# Altium footprint library TT_Pcb.PcbLib: 43 footprints (part 1 of 3)
Each footprint in its own frame and in the unit in brackets; x right, y up, seen from the top. Pads: shape width x height; smd on the part's side, far side on the other; paste and mask are expansions set on the pad; w line width, h text height; cw(c..) or ccw(c..) is an arc to the next point about the centre after c.
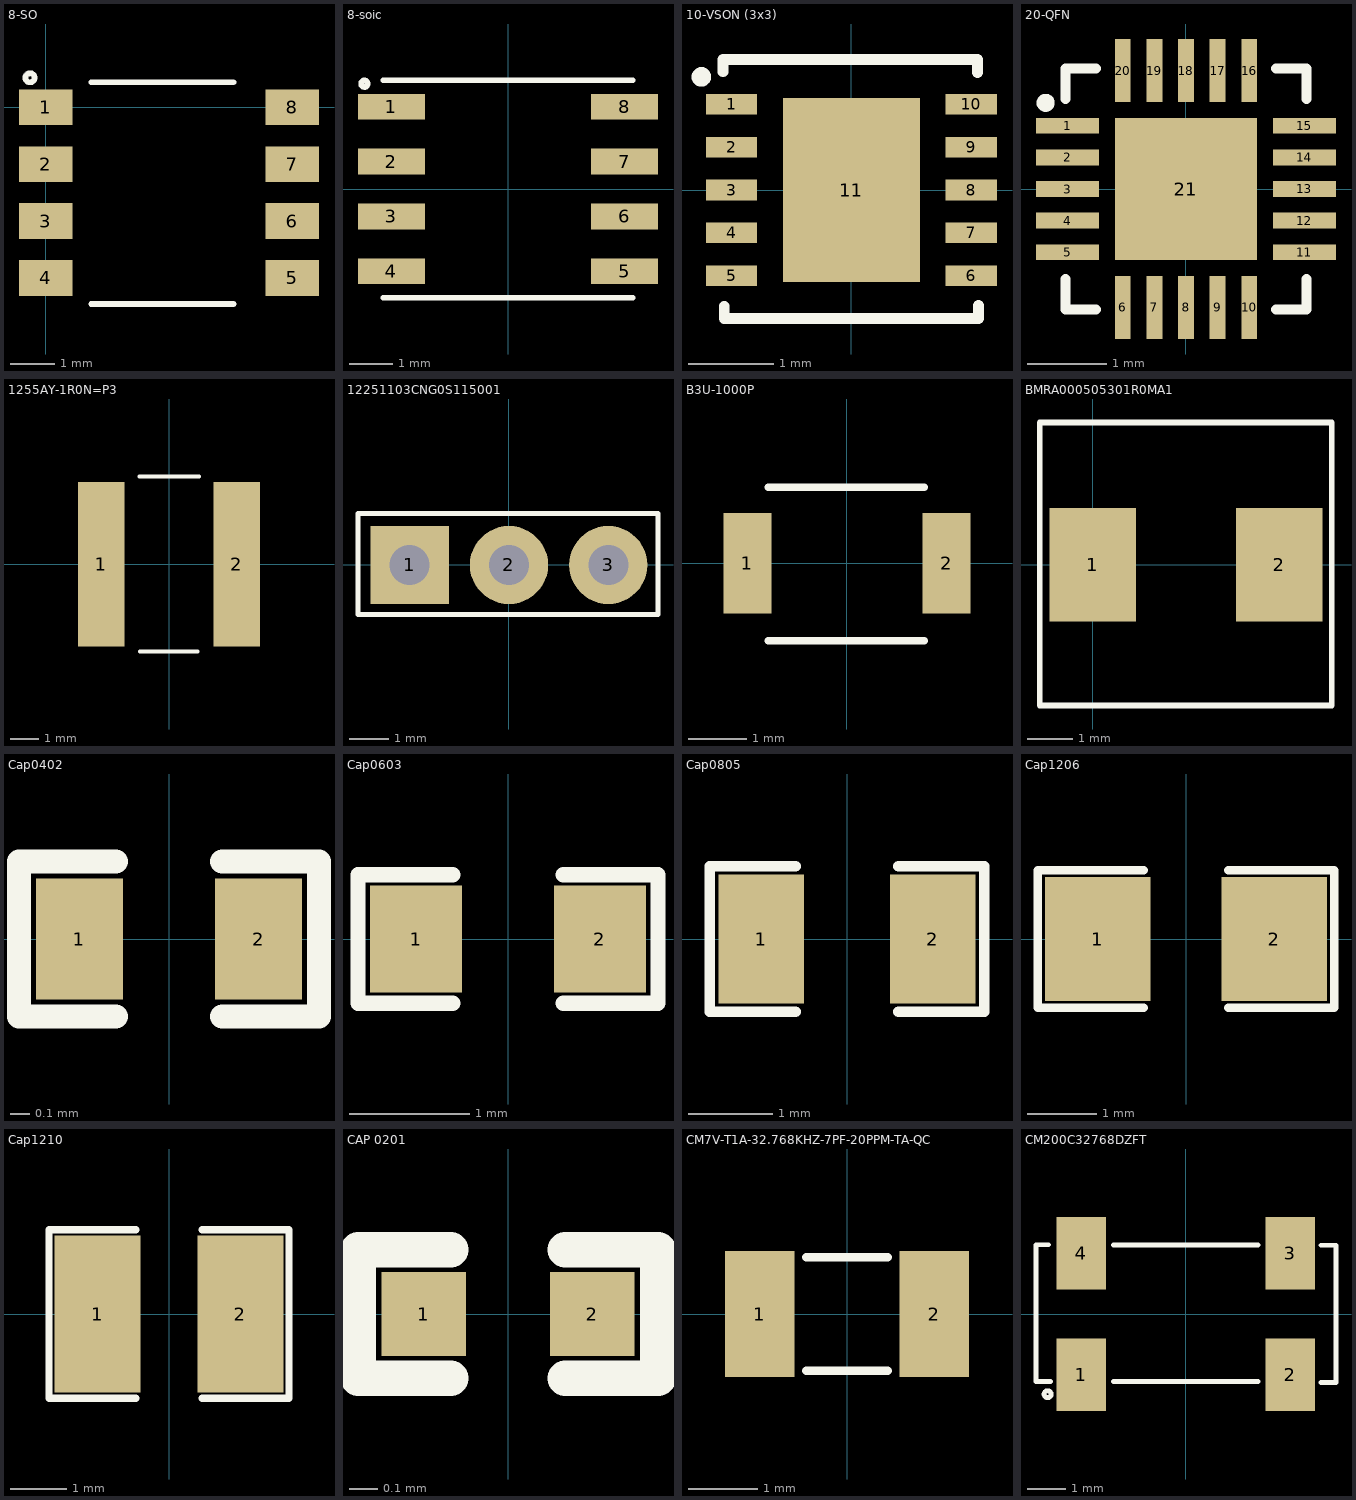
[diagram p0: the footprints below, top view; thin cyan lines are the x and y axes]

## 8-SO [mm] "IC RTC CLK/CALENDAR I2C 8-SOIC"
pads (8):
  rect 1.2x0.8 smd: 1(0,0) 2(0,-1.27) 3(0,-2.54) 4(0,-3.81) 5(5.5,-3.81) 6(5.5,-2.54) 7(5.5,-1.27) 8(5.5,0)
Top Overlay:
  circle w0.127: c-0.356,0.66 r0.102
  lines w0.127: 1.016,-4.394 4.191,-4.394 ; 1.016,0.559 4.191,0.559
3D body "CircuitWorks-SO-8.STEP": height 1.45, standoff 0, extent -0.317,-4.356 5.461,0.546

## 8-soic [mm]
pads (8):
  rect 1.55x0.6 smd: 1(-2.7,1.905) 2(-2.7,0.635) 3(-2.7,-0.635) 4(-2.7,-1.905) 5(2.7,-1.905) 6(2.7,-0.635) 7(2.7,0.635) 8(2.7,1.905)
Top Overlay:
  circle w0.127: c-3.327,2.438 r0.076
  lines w0.127: -2.896,-2.515 2.896,-2.515 ; -2.896,2.515 2.896,2.515
3D body: height 0.25, standoff 0, extent -3,-2.45 3,2.45

## 10-VSON (3x3) [mm] "IC REG BOOST ADJ 4A 10VSON"
pads (11):
  rect 0.6x0.24 smd: 1(-1.4,1) 2(-1.4,0.5) 3(-1.4,0) 4(-1.4,-0.5) 5(-1.4,-1) 6(1.4,-1) 7(1.4,-0.5) 8(1.4,0) 9(1.4,0.5) 10(1.4,1)
  rect 1.6x2.15 smd: 11(0,0)
Top Overlay:
  circle w0.127: c-1.753,1.321 r0.051
  lines w0.127: -1.499,1.381 -1.499,1.523 1.473,1.523 1.473,1.372 ; -1.486,-1.357 -1.486,-1.499 1.486,-1.499 1.486,-1.348
3D body "TPS61230DRCR.STEP": height 1, standoff 0, extent -1.5,-1.5 1.5,1.5

## 20-QFN [mm] "IC MCU 8BIT 16KB FLASH 20VQFN"
pads (21):
  rect 0.8x0.2 smd: 1(-1.5,0.8) 2(-1.5,0.4) 3(-1.5,0) 4(-1.5,-0.4) 5(-1.5,-0.8) 11(1.5,-0.8) 12(1.5,-0.4) 13(1.5,0) 14(1.5,0.4) 15(1.5,0.8)
  rect 0.2x0.8 smd: 6(-0.8,-1.5) 7(-0.4,-1.5) 8(0,-1.5) 9(0.4,-1.5) 10(0.8,-1.5) 16(0.8,1.5) 17(0.4,1.5) 18(0,1.5) 19(-0.4,1.5) 20(-0.8,1.5)
  rect 1.8x1.8 smd: 21(0,0)
Top Overlay:
  circle w0.127: c-1.778,1.092 r0.051
  lines w0.127: -1.524,-1.143 -1.524,-1.524 -1.143,-1.524 ; -1.524,1.143 -1.524,1.524 -1.143,1.524 ; 1.143,-1.524 1.524,-1.524 1.524,-1.143 ; 1.143,1.524 1.524,1.524 1.524,1.143
3D body "VQFN20_3X3_MCH.step": height 0.59, standoff 0, extent -1.499,-1.499 1.499,1.499

## 1255AY-1R0N=P3 [mm] "FIXED IND 1UH 6.5A 10 MOHM SMD"
pads (2):
  rect 1.6x5.7 smd: 1(-2.35,0) 2(2.35,0)
Top Overlay:
  lines w0.127: -1.036,3.048 1.04,3.048 ; -1.008,-3.023 0.997,-3.023
3D body "1255AY-1R0N=P3.STEP": height 4.5, standoff 0, extent -3,-3 3,3

## 12251103CNG0S115001 [mm] "Pin Header 3 1 right-angle"
pads (3):
  rect 2x2 hole 1.02: 1(-2.54,0)
  round 2 hole 1.02: 2(0,0) 3(2.54,0)
Top Overlay:
  lines w0.127: -3.861,-1.27 3.81,-1.27 3.81,1.321 -3.861,1.321 -3.861,-1.27
3D body "71071829.stp": height 8.57, standoff -2.97, extent -3.81,-1.27 3.81,1.27

## B3U-1000P [mm] "SWITCH TACTILE SPST-NO 0.05A 12V"
pads (2):
  rect 0.82x1.72 smd: 1(-1.7,0) 2(1.7,0)
Top Overlay:
  lines w0.127: -1.346,-1.321 0,-1.321 1.321,-1.321 ; -1.346,1.295 0,1.295 1.321,1.295
3D body "User Library-OMRON B3U1000P.step": height 1.6, standoff 0, extent -2,-1.263 2,1.237

## BMRA000505301R0MA1 [mm] "FIXED IND 1UH 7A 15 MOHM SMD"
pads (2):
  rect 1.9x2.5 smd: 1(0,0) 2(4.1,0)
Top Overlay:
  lines w0.127: -1.168,-3.099 -1.168,3.124 5.258,3.124 5.258,-3.099 -1.168,-3.099

## Cap0402 [mil]
pads (2):
  rect 18x25 smd mask+2.36: 1(-18.5,0) 2(18.5,0)
Top Overlay:
  lines w5: -11,-16 -31,-16 -31,16 -11,16 ; 11,-16 31,-16 31,16 11,16
3D body "User Library-Capacitor 0402.step": height 18.5, standoff -1.18, extent -19.68,-9.84 19.7,9.85

## Cap0603 [mil]
pads (2):
  rect 30x35 smd mask+2.36: 1(-30,0) 2(30,0)
Top Overlay:
  lines w5: -18,-21 -49,-21 -49,21 -18,21 ; 18,-21 49,-21 49,21 18,21
3D body "User Library-CAPC1608X09.step": height 34.25, standoff -1.18, extent -31.51,-15.75 31.49,15.74

## Cap0805 [mil] "SMD 0805"
pads (2):
  rect 40x60 smd mask+2.76: 1(-40,0) 2(40,0)
Top Overlay:
  lines w5: -24,-34 -64,-34 -64,34 -24,34 ; 24,-34 64,-34 64,34 24,34
3D body "User Library-0805 SMD Capacitor.step": height 30, standoff -0.79, extent -39.36,-24.6 39.38,24.61

## Cap1206 [mil] "SMD 1206"
pads (2):
  rect 60x70 smd: 1(-50,0) 2(50,0)
Top Overlay:
  lines w5: -24,-39 -84,-39 -84,39 -24,39 ; 24,-39 84,-39 84,39 24,39
3D body "User Library-1206 SMD Capacitor.step": height 39.45, standoff 0, extent -62.96,-31.46 63.03,31.53

## Cap1210 [mil] "SMD 1210"
pads (2):
  rect 60x110 smd: 1(-50,0) 2(50,0)
Top Overlay:
  lines w5: -23,-59 -84,-59 -84,59 -23,59 ; 23,-59 84,-59 84,59 23,59
3D body "User Library-CAPC3225X10.step": height 39.37, standoff 0, extent -62.99,-49.21 63,49.22

## CAP 0201 [mm]
pads (2):
  rect 0.3x0.3 smd mask+0.055: 1(-0.3,0) 2(0.3,0)
Top Overlay:
  lines w0.127: -0.203,-0.229 -0.533,-0.229 -0.533,0.229 -0.203,0.229 ; 0.203,-0.229 0.533,-0.229 0.533,0.229 0.203,0.229
3D body "User Library-SMD Ceramic Capacitors_0201 (0603)_AB.STEP": height 0.28, standoff -0.02, extent -0.3,-0.15 0.301,0.15

## CM7V-T1A-32.768KHZ-7PF-20PPM-TA-QC [mm]
pads (2):
  rect 1x1.8 smd: 1(-1.25,0) 2(1.25,0)
Top Overlay:
  lines w0.127: -0.584,-0.813 0.584,-0.813 ; -0.584,0.813 0.584,0.813
3D body "User Library-FX135A-327.step": height 0.9, standoff -0.01, extent -1.6,-0.75 1.6,0.75

## CM200C32768DZFT [mm] "CRYSTAL 32.7680KHZ 12.5PF SMD"
pads (4):
  rect 1.3x1.9 smd: 1(-2.75,-1.6) 2(2.75,-1.6) 3(2.75,1.6) 4(-2.75,1.6)
Top Overlay:
  circle w0.127: c-3.632,-2.108 r0.092
  lines w0.127: -3.606,1.818 -3.937,1.818 -3.937,-1.778 -3.556,-1.778 ; -1.905,-1.778 1.905,-1.778 ; -1.905,1.818 1.905,1.818 ; 3.556,-1.801 3.948,-1.801 3.948,1.809 3.556,1.809
3D body "CM200C32768HZFT_CFC.step": height 2.49, standoff 0, extent -4,-1.905 4,1.905